# EAGLE library part TC4427(8MSOP) (library TC4427(8MSOP))
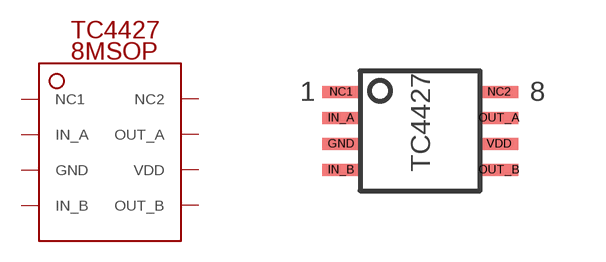
[diagram p0: symbol with the pads of TC4427(8MSOP); footprint TC4427(8MSOP)]

Designator prefix -

## TC4427(8MSOP)  [TC4427(8MSOP)]
GND  GND
IN_A  IN_A
IN_B  IN_B
NC1  NC1
NC2  NC2
OUT_A  OUT_A
OUT_B  OUT_B
VDD  VDD

## Footprint TC4427(8MSOP) (pad centres in mm)
smd 0.95 x 0.3: GND -1.975,-0.325; IN_A -1.975,0.325; IN_B -1.975,-0.975; NC1 -1.975,0.975; NC2 1.975,0.975; OUT_A 1.975,0.325; OUT_B 1.975,-0.975; VDD 1.975,-0.325